# Altium footprint library INDP176169X70N.PcbLib: 1 footprints
Each footprint in its own frame and in the unit in brackets; x right, y up, seen from the top. Pads: shape width x height; smd on the part's side, far side on the other; paste and mask are expansions set on the pad; w line width, h text height; cw(c..) or ccw(c..) is an arc to the next point about the centre after c.
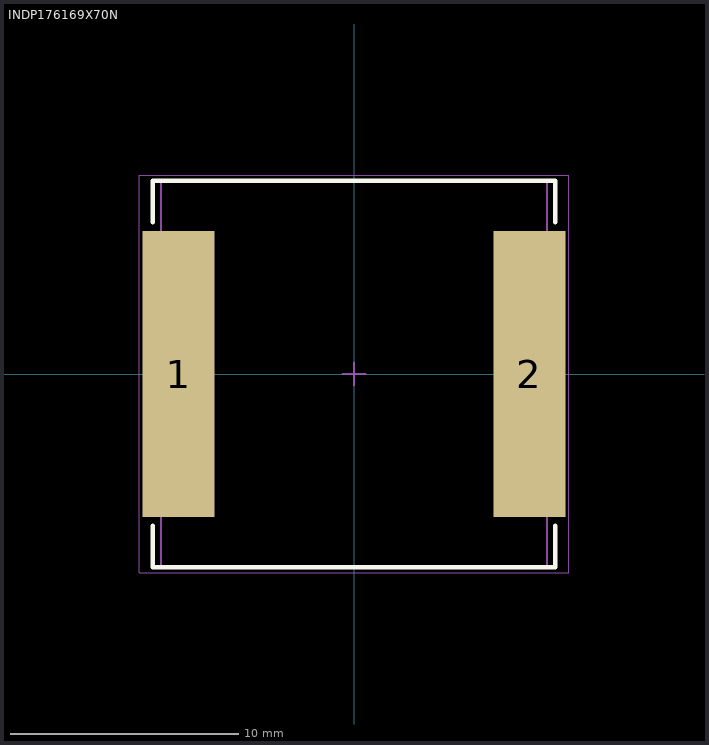
[diagram p0: the footprint, top view; thin cyan lines are the x and y axes]

## INDP176169X70N [mm] "Precision Wire Wound Inductor, 2-Leads, Body 17.60x16.90mm, IPC Medium Density"
height 7
pads (2):
  rect 3.15x12.5 smd: 1(-7.675,0) 2(7.675,0)
Top Overlay:
  lines w0.2: -8.8,-6.65 -8.8,-8.45 8.8,-8.45 8.8,-6.65 ; -8.8,6.65 -8.8,8.45 8.8,8.45 8.8,6.65
Mechanical 13:
  lines w0.1: -8.45,-8.45 -8.45,8.45 8.45,8.45 8.45,-8.45 -8.45,-8.45
Mechanical 15:
  lines w0.05: -9.4,-8.7 -9.4,8.7 9.4,8.7 9.4,-8.7 -9.4,-8.7
  lines w0.1: -0.5,0 0.5,0 ; 0,-0.5 0,0.5
3D body "BOURNS_SRP1770TA.STEP": height 6.81, standoff 0, extent -8.95,-8.45 8.95,8.45